# Altium schematic symbol library Inverting buck boost.SchLib: 104 symbols (part 2 of 9)
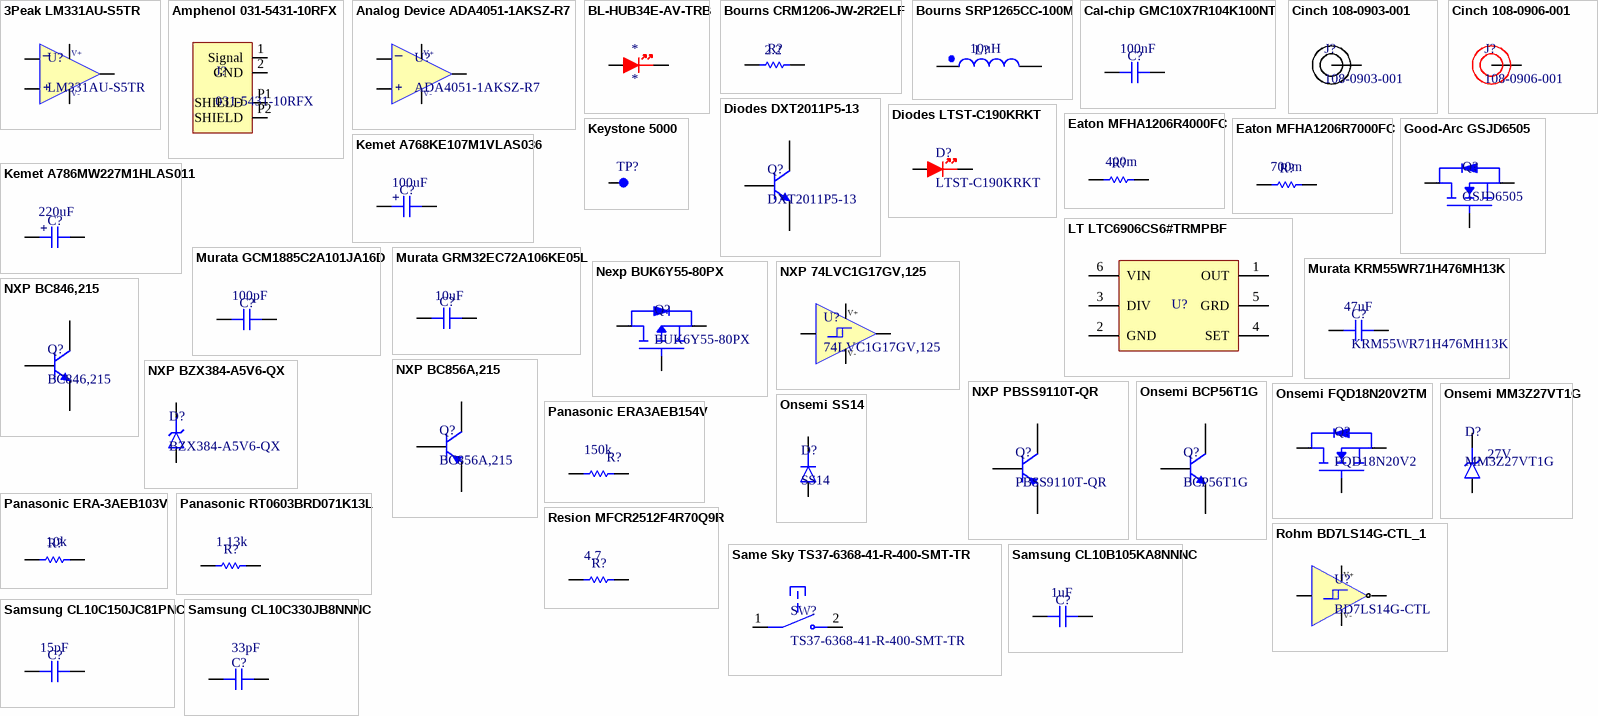
[diagram p3: symbols 3Peak LM331AU-S5TR to Samsung CL10C330JB8NNNC]

## Murata GCM1885C2A101JA16D
designator C?, comment Capacitance: 100pF  (hidden comment: GCM1885C2A101JA16D)
100V 100pF C0G ±5% 0603 Multilayer Ceramic Capacitors MLCC - SMD/SMT ROHS; Manufacturer: Murata; Manufacturer Lifecycle Status: IN PRODUCTION; Temperature Coefficient: 30ppm/°C; Supplier: RS; Supplier Part Number: 8151323P; Manufacturer Part Number: GCM1885C2A101JA16D; RoHS: Compliant; Category: Ceramic Capacitors; Stock: 11200; Pricing: 1000=0,018, 2000=0,017, 5000=0,016, 10000=0,014 (EUR); Case/Package: 0603; Case Code (Imperial): 0603; Case Code (Metric): 1608; Depth: 800µm; Dielectric: C0G; Dielectric Material: Ceramic; Height: 800µm; Lead Free: Lead Free; Length: 1.6mm; Lifecycle Status: Production; Material: Ceramic; Max Operating Temperature: 125°C; Min Operating Temperature: -55°C; Mounting Technology: Surface Mount; Number of Terminals: 2; Radiation Hardening: No; Ratings: AEC-Q200; REACH SVHC: Yes; Schedule B: 8532240020, 8532240020|8532240020, 8532240020|8532240020|8532240020, 8532240020|8532240020|8532240020|8532240020; Termination: SMD/SMT; Tolerance: 5%; Voltage: 100V; Voltage Rating: 100V; Voltage Rating (DC): 100V; Width: 800µm; ComponentLink1URL: https://datasheet.octopart.com:443/GCM1885C2A101JA16D-Murata-datasheet-149522598.pdf?src-supplier=Farnell; ComponentLink1Description: https://datasheet.octopart.com:443/GCM1885C2A101JA16D-Murata-datasheet-149522598.pdf?src-supplier=Farnell; ComponentLink2URL: https://datasheet.octopart.com:443/GCM1885C2A101JA16D-Murata-datasheet-104277829.pdf?src-supplier=Newark; ComponentLink2Description: https://datasheet.octopart.com:443/GCM1885C2A101JA16D-Murata-datasheet-104277829.pdf?src-supplier=Newark; ComponentLink3URL: https://datasheet.octopart.com:443/GCM1885C2A101JA16D-Murata-datasheet-141266551.pdf?src-supplier=Geoflip; ComponentLink3Description: https://datasheet.octopart.com:443/GCM1885C2A101JA16D-Murata-datasheet-141266551.pdf?src-supplier=Geoflip; ComponentLink4URL: https://datasheet.octopart.com:443/GCM1885C2A101JA16D-Murata-datasheet-14404397.pdf?src-supplier=Future+Electronics; ComponentLink4Description: https://datasheet.octopart.com:443/GCM1885C2A101JA16D-Murata-datasheet-14404397.pdf?src-supplier=Future+Electronics; ComponentLink5URL: https://datasheet.octopart.com:443/GCM1885C2A101JA16D-Murata-datasheet-12524712.pdf?src-supplier=Future+Electronics; ComponentLink5Description: https://datasheet.octopart.com:443/GCM1885C2A101JA16D-Murata-datasheet-12524712.pdf?src-supplier=Future+Electronics; ComponentLink6URL: https://datasheet.octopart.com:443/GCM1885C2A101JA16D-Murata-datasheet-44104441.pdf?src-supplier=Future+Electronics; ComponentLink6Description: https://datasheet.octopart.com:443/GCM1885C2A101JA16D-Murata-datasheet-44104441.pdf?src-supplier=Future+Electronics; ComponentLink7URL: https://datasheet.octopart.com:443/GCM1885C2A101JA16D-Murata-datasheet-140657395.pdf?src-supplier=Ciiva; ComponentLink7Description: https://datasheet.octopart.com:443/GCM1885C2A101JA16D-Murata-datasheet-140657395.pdf?src-supplier=Ciiva; ComponentLink8URL: https://datasheet.octopart.com:443/GCM1885C2A101JA16D-Murata-datasheet-138717052.pdf?src-supplier=Ciiva; ComponentLink8Description: https://datasheet.octopart.com:443/GCM1885C2A101JA16D-Murata-datasheet-138717052.pdf?src-supplier=Ciiva; ComponentLink9URL: https://datasheet.octopart.com:443/GCM1885C2A101JA16D-Murata-datasheet-141971842.pdf?src-supplier=Arrow.cn; ComponentLink9Description: https://datasheet.octopart.com:443/GCM1885C2A101JA16D-Murata-datasheet-141971842.pdf?src-supplier=Arrow.cn; ComponentLink10URL: https://datasheet.octopart.com:443/GCM1885C2A101JA16D-Murata-datasheet-12511495.pdf?src-supplier=TME; ComponentLink10Description: https://datasheet.octopart.com:443/GCM1885C2A101JA16D-Murata-datasheet-12511495.pdf?src-supplier=TME; ComponentLink11URL: http://sigma.octopart.com:80/reach_statement/Murata-company-16.pdf?src-supplier=Compliance+Statements; ComponentLink11Description: http://sigma.octopart.com:80/reach_statement/Murata-company-16.pdf?src-supplier=Compliance+Statements
footprint Cap_0603
pins: 1, 2

## Murata GRM32EC72A106KE05L
designator C?, comment Capacitance: 10uF  (hidden comment: GRM32EC72A106KE05L)
100V 10uF X7S ±10% 1210 Multilayer Ceramic Capacitors MLCC - SMD/SMT ROHS; Manufacturer: Murata; Manufacturer Lifecycle Status: IN PRODUCTION; Supplier: RS; Supplier Part Number: 2478166P; Manufacturer Part Number: GRM32EC72A106KE05L; RoHS: Compliant; Category: Ceramic Capacitors; Stock: 6445; Pricing: 25=1,014, 50=0,9, 500=0,79 (EUR); Case/Package: 1210; Dielectric: X7S; Dielectric Material: Ceramic; Height: 2.5mm; Length: 3.2mm; Lifecycle Status: Production; Material: Ceramic; Max Operating Temperature: 125°C; Min Operating Temperature: -55°C; Mounting Technology: Surface Mount; Number of Terminals: 2; REACH SVHC: Yes; Schedule B: 8532240020, 8532240020|8532240020|8532240020|8532240020|8532240020|8532240020|8532240020|8532240020|8532240020|8532240020|8532240020|8532240020|8532240020|8532240020|8532240020|8532240020|8532240020|8532240020|8532240020|8532240020|8532240020|8532240020|8532240020|85; Thickness: 2.5mm; Tolerance: 10%; Voltage Rating: 100V; Voltage Rating (DC): 100V; Width: 2.5mm; ComponentLink1URL: https://datasheet.octopart.com:443/GRM32EC72A106KE05L-Murata-datasheet-141281477.pdf?src-supplier=Geoflip; ComponentLink1Description: https://datasheet.octopart.com:443/GRM32EC72A106KE05L-Murata-datasheet-141281477.pdf?src-supplier=Geoflip; ComponentLink2URL: https://datasheet.octopart.com:443/GRM32EC72A106KE05L-Murata-datasheet-165579666.pdf?src-supplier=TME; ComponentLink2Description: https://datasheet.octopart.com:443/GRM32EC72A106KE05L-Murata-datasheet-165579666.pdf?src-supplier=TME; ComponentLink3URL: https://datasheet.octopart.com:443/GRM32EC72A106KE05L-Murata-datasheet-140709574.pdf?src-supplier=Ciiva; ComponentLink3Description: https://datasheet.octopart.com:443/GRM32EC72A106KE05L-Murata-datasheet-140709574.pdf?src-supplier=Ciiva; ComponentLink4URL: https://datasheet.octopart.com:443/GRM32EC72A106KE05L-Murata-datasheet-138746841.pdf?src-supplier=Ciiva; ComponentLink4Description: https://datasheet.octopart.com:443/GRM32EC72A106KE05L-Murata-datasheet-138746841.pdf?src-supplier=Ciiva; ComponentLink5URL: https://datasheet.octopart.com:443/GRM32EC72A106KE05L-Murata-datasheet-102370999.pdf?src-supplier=HQonline; ComponentLink5Description: https://datasheet.octopart.com:443/GRM32EC72A106KE05L-Murata-datasheet-102370999.pdf?src-supplier=HQonline; ComponentLink6URL: https://datasheet.octopart.com/GRM32EC72A106KE05L-Murata-datasheet-12515295.pdf; ComponentLink6Description: https://datasheet.octopart.com/GRM32EC72A106KE05L-Murata-datasheet-12515295.pdf; ComponentLink7URL: https://datasheet.octopart.com/GRM32EC72A106KE05L-Murata-datasheet-12510076.pdf; ComponentLink7Description: https://datasheet.octopart.com/GRM32EC72A106KE05L-Murata-datasheet-12510076.pdf; ComponentLink8URL: https://datasheet.octopart.com/GRM32EC72A106KE05L-Murata-datasheet-11978611.pdf; ComponentLink8Description: https://datasheet.octopart.com/GRM32EC72A106KE05L-Murata-datasheet-11978611.pdf; ComponentLink9URL: https://datasheet.octopart.com/GRM32EC72A106KE05L-Murata-datasheet-10025737.pdf; ComponentLink9Description: https://datasheet.octopart.com/GRM32EC72A106KE05L-Murata-datasheet-10025737.pdf; ComponentLink10URL: https://datasheet.octopart.com/GRM32EC72A106KE05L-Murata-datasheet-8819587.pdf; ComponentLink10Description: https://datasheet.octopart.com/GRM32EC72A106KE05L-Murata-datasheet-8819587.pdf; ComponentLink11URL: http://sigma.octopart.com:80/reach_statement/Murata-company-16.pdf?src-supplier=Compliance+Statements; ComponentLink11Description: http://sigma.octopart.com:80/reach_statement/Murata-company-16.pdf?src-supplier=Compliance+Statements
footprint cap_1210
pins: 1, 2

## Murata KRM55WR71H476MH13K
designator C?, comment KRM55WR71H476MH13K  Capacitance: 47uF
Multilayer Ceramic Capacitors MLCC - SMD/SMT 47uF 50VDC 20% X7R; Manufacturer: Murata; Voltage Rating: 50V; Supplier: DigiKey; Supplier Part Number: 490-KRM55WR71H476MH13KCT-ND; Manufacturer Part Number: KRM55WR71H476MH13K; RoHS: Compliant; Category: Ceramic Capacitors; Stock: 10136; Pricing: 1=4,98, 10=3,591, 50=3,0356, 100=2,8638 (USD); Case/Package: 2220; Dielectric: X7R; Dielectric Material: Ceramic; Height: 6.4mm; Length: 6.1mm; Lifecycle Status: Production; Material: Ceramic; Max Operating Temperature: 125°C; Min Operating Temperature: -55°C; Mounting Technology: Surface Mount; Number of Terminals: 2; REACH SVHC: Yes; Thickness: 6.4mm; Tolerance: 20%; Voltage Rating (DC): 50V; Width: 5.3mm; ComponentLink1URL: https://datasheet.octopart.com/KRM55WR71H476MH13K-Murata-datasheet-12515295.pdf; ComponentLink1Description: https://datasheet.octopart.com/KRM55WR71H476MH13K-Murata-datasheet-12515295.pdf; ComponentLink2URL: https://datasheet.octopart.com/KRM55WR71H476MH13K-Murata-datasheet-12510076.pdf; ComponentLink2Description: https://datasheet.octopart.com/KRM55WR71H476MH13K-Murata-datasheet-12510076.pdf; ComponentLink3URL: https://datasheet.octopart.com/KRM55WR71H476MH13K-Murata-datasheet-11978611.pdf; ComponentLink3Description: https://datasheet.octopart.com/KRM55WR71H476MH13K-Murata-datasheet-11978611.pdf; ComponentLink4URL: https://datasheet.octopart.com/KRM55WR71H476MH13K-Murata-datasheet-10025737.pdf; ComponentLink4Description: https://datasheet.octopart.com/KRM55WR71H476MH13K-Murata-datasheet-10025737.pdf; ComponentLink5URL: https://datasheet.octopart.com/KRM55WR71H476MH13K-Murata-datasheet-8819587.pdf; ComponentLink5Description: https://datasheet.octopart.com/KRM55WR71H476MH13K-Murata-datasheet-8819587.pdf; ComponentLink6URL: http://sigma.octopart.com:80/reach_statement/Murata-company-16.pdf?src-supplier=Compliance+Statements; ComponentLink6Description: http://sigma.octopart.com:80/reach_statement/Murata-company-16.pdf?src-supplier=Compliance+Statements
footprint cap_2220
pins: 1, 2

## Nexp BUK6Y55-80PX
designator Q?, comment BUK6Y55-80PX
80 V, P-channel Trench MOSFET; Manufacturer: Nexperia; Supplier: DigiKey; Supplier Part Number: 1727-BUK6Y55-80PXCT-ND; Manufacturer Part Number: BUK6Y55-80PX; RoHS: Compliant; Category: MOSFETs; Stock: 1568; Pricing: 1=1,14, 10=0,826, 25=0,7464, 100=0,6593, 250=0,61776, 500=0,59272 (USD); China RoHS: Non-Compliant; Export Control Classification Number (ECCN) Code: EAR99; Introduction Date: 2025-05-08; Lifecycle Status: Production; REACH SVHC: No
footprint LFPAK56
pins: 1 S, 4 G, MB D

## NXP 74LVC1G17GV,125
designator U?, comment 74LVC1G17GV,125
Schmitt Trigger Buffer, Single, 1 Input, 5 Pins, TSOP, 74LVC1G17; Manufacturer: Nexperia; Manufacturer Lifecycle Status: RELEASED FOR SUPPLY; High Level Output Current: -32mA; Load Capacitance: 50pF; Logic Function: Buffer, Schmitt Trigger; Low Level Output Current: 24mA; Max Supply Voltage: 5.5V; Min Supply Voltage: 1.65V; Number of Bits per Element: 1; Operating Supply Voltage: 1.8V; Polarity: Non-Inverting; Propagation Delay: 7ns; Quiescent Current: 200µA; Schmitt Trigger Input: Yes; Turn-On Delay Time: 14ns; Supplier: DigiKey; Supplier Part Number: 1727-6070-1-ND; Manufacturer Part Number: 74LVC1G17GV,125; RoHS: Compliant; Category: Logic Gates; Stock: 58843; Pricing: 1=0,1, 10=0,069, 25=0,0604, 100=0,0509, 250=0,04628, 500=0,04348, 1000=0,04119 (USD); Case/Package: TSOP; China RoHS: Compliant; Contact Plating: Tin; Height - Seated (Max): 1.1mm; Harmonized Tariff Schedule (HTS) Code: 8542.39.00.01; Introduction Date: 2004-12-01; Lead Free: Lead Free; Length: 2.9mm; Lifecycle Status: Production; Max Operating Temperature: 125°C; Max Supply Voltage (DC): 5.5V; Max Voltage Rating (DC): 5.5V; Min Operating Temperature: -40°C; Min Supply Voltage (DC): 1.65V; Mounting Technology: Surface Mount; Number of Channels: 1; Number of Circuits: 1; Number of Elements: 1; Number of Input Lines: 1; Number of Inputs: 1; Number of Output Lines: 1; Number of Outputs: 1; Pins: 5; Number of Terminals: 5; Packaging: Tape & Reel; Radiation Hardening: No; REACH SVHC: Yes; Schedule B: 8542390000, 8542390000|8542390000|8542390000|8542390000|8542390000; Temperature Grade: Automotive; Terminal Pitch: 950µm; Width: 1.5mm; ComponentLink1URL: https://datasheet.octopart.com:443/74LVC1G17GV%2C125-Nexperia-datasheet-87842575.pdf?src-supplier=IHS; ComponentLink1Description: https://datasheet.octopart.com:443/74LVC1G17GV%2C125-Nexperia-datasheet-87842575.pdf?src-supplier=IHS; ComponentLink2URL: https://datasheet.octopart.com:443/74LVC1G17GV%2C125-Nexperia-datasheet-11799833.pdf?src-supplier=IHS; ComponentLink2Description: https://datasheet.octopart.com:443/74LVC1G17GV%2C125-Nexperia-datasheet-11799833.pdf?src-supplier=IHS; ComponentLink3URL: https://datasheet.octopart.com:443/74LVC1G17GV%2C125-Nexperia-datasheet-73818103.pdf?src-supplier=Newark; ComponentLink3Description: https://datasheet.octopart.com:443/74LVC1G17GV%2C125-Nexperia-datasheet-73818103.pdf?src-supplier=Newark; ComponentLink4URL: https://datasheet.octopart.com:443/74LVC1G17GV%2C125-NXP-Semiconductors-datasheet-13026859.pdf?src-supplier=Newark; ComponentLink4Description: https://datasheet.octopart.com:443/74LVC1G17GV%2C125-NXP-Semiconductors-datasheet-13026859.pdf?src-supplier=Newark; ComponentLink5URL: https://datasheet.octopart.com:443/74LVC1G17GV%2C125-Nexperia-datasheet-116120530.pdf?src-supplier=Future+Electronics; ComponentLink5Description: https://datasheet.octopart.com:443/74LVC1G17GV%2C125-Nexperia-datasheet-116120530.pdf?src-supplier=Future+Electronics; ComponentLink6URL: http://sigma.octopart.com:80/reach_statement/NXP-Semiconductors-company-13.pdf?src-supplier=Compliance+Statements; ComponentLink6Description: http://sigma.octopart.com:80/reach_statement/NXP-Semiconductors-company-13.pdf?src-supplier=Compliance+Statements; ComponentLink7URL: http://sigma.octopart.com:80/rohs_statement/NXP-Semiconductors-company-12.pdf?src-supplier=Compliance+Statements; ComponentLink7Description: http://sigma.octopart.com:80/rohs_statement/NXP-Semiconductors-company-12.pdf?src-supplier=Compliance+Statements
footprint SOT353-1
pins: 2 A, 3 V-, 4 Y, 5 V+

## NXP BC846,215
designator Q?, comment BC846,215
BC846 Series 65 V 100 mA SMT NPN General Purpose Transistor - SOT-23; Manufacturer: Nexperia; Manufacturer Lifecycle Status: RELEASED FOR SUPPLY; Collector Base Voltage (VCBO): 80V; Collector Emitter Breakdown Voltage: 65V; Collector Emitter Saturation Voltage: 600mV; Element Configuration: Single; Emitter Base Voltage (VEBO): 6V; Frequency: 100MHz; hFE Min: 110; Max Collector Current: 100mA; Max Power Dissipation: 250mW; Number of Elements: 1; Supplier: RS; Supplier Part Number: 4842268P; Manufacturer Part Number: BC846,215; RoHS: Compliant; Category: BJTs; Stock: 24450; Pricing: 100=0,103, 250=0,091 (EUR); Case/Package: SOT-23; China RoHS: Compliant; Collector Emitter Voltage (VCEO): 65V; Contact Plating: Tin; Country of Origin: Mainland China; Export Control Classification Number (ECCN) Code: EAR99; Gain Bandwidth Product: 100MHz; Height: 1mm; Harmonized Tariff Schedule (HTS) Code: 8541.21.00.95; Introduction Date: 1997-09-01; Lead Free: Lead Free; Length: 3mm; Lifecycle Status: Production; Max Breakdown Voltage: 65V; Clock Frequency: 100MHz; Max Operating Temperature: 150°C; Min Operating Temperature: -65°C; Mounting Technology: Surface Mount; Pins: 3; Number of Terminals: 3; Packaging: Cut Tape; Polarity: NPN; Power Dissipation: 250mW; Radiation Hardening: No; REACH SVHC: Yes; Schedule B: 8541210080, 8541210080|8541210080|8541210080|8541210080|8541210080|8541210080|8541210080|8541210080|8541210080|8541210080|8541210080|8541210080|8541210080|8541210080|8541210080|8541210080|8541210080, 8541210080|8541210080|8541210080|8541210080|8541210080|8541210080|8541210080|8541210080|8541210080|8541210080|8541210080|8541210080|8541210080|8541210080|8541210080|8541210080|8541210080|8541210080, 8541210080|8541210080|8541210080|8541210080|8541210080|8541210080|8541210080|8541210080|8541210080|8541210080|8541210080|8541210080|8541210080|8541210080|8541210080|8541210080|8541210080|8541210080|8541210080; Transition Frequency: 100MHz; Weight: 4.535924g; Width: 1.4mm; ComponentLink1URL: https://datasheet.octopart.com:443/BC846%2C215-Nexperia-datasheet-158761168.pdf?src-supplier=Future+Electronics; ComponentLink1Description: https://datasheet.octopart.com:443/BC846%2C215-Nexperia-datasheet-158761168.pdf?src-supplier=Future+Electronics; ComponentLink2URL: https://datasheet.octopart.com:443/BC846%2C215-Nexperia-datasheet-12520503.pdf?src-supplier=IHS; ComponentLink2Description: https://datasheet.octopart.com:443/BC846%2C215-Nexperia-datasheet-12520503.pdf?src-supplier=IHS; ComponentLink3URL: https://datasheet.octopart.com:443/BC846%2C215-Nexperia-datasheet-116120539.pdf?src-supplier=IHS; ComponentLink3Description: https://datasheet.octopart.com:443/BC846%2C215-Nexperia-datasheet-116120539.pdf?src-supplier=IHS; ComponentLink4URL: https://datasheet.octopart.com:443/BC846%2C215-Nexperia-datasheet-87580894.pdf?src-supplier=Newark; ComponentLink4Description: https://datasheet.octopart.com:443/BC846%2C215-Nexperia-datasheet-87580894.pdf?src-supplier=Newark; ComponentLink5URL: https://datasheet.octopart.com:443/BC846%2C215-NXP-Semiconductors-datasheet-8530246.pdf?src-supplier=Arrow+Electronics; ComponentLink5Description: https://datasheet.octopart.com:443/BC846%2C215-NXP-Semiconductors-datasheet-8530246.pdf?src-supplier=Arrow+Electronics; ComponentLink6URL: https://datasheet.octopart.com:443/BC846%2C215-NXP-Semiconductors-datasheet-20734450.pdf?src-supplier=Farnell; ComponentLink6Description: https://datasheet.octopart.com:443/BC846%2C215-NXP-Semiconductors-datasheet-20734450.pdf?src-supplier=Farnell; ComponentLink7URL: http://sigma.octopart.com:80/reach_statement/NXP-Semiconductors-company-13.pdf?src-supplier=Compliance+Statements; ComponentLink7Description: http://sigma.octopart.com:80/reach_statement/NXP-Semiconductors-company-13.pdf?src-supplier=Compliance+Statements; ComponentLink8URL: http://sigma.octopart.com:80/rohs_statement/NXP-Semiconductors-company-12.pdf?src-supplier=Compliance+Statements; ComponentLink8Description: http://sigma.octopart.com:80/rohs_statement/NXP-Semiconductors-company-12.pdf?src-supplier=Compliance+Statements
footprint sot23
pins: 1 B, 2 E, 3 C

## NXP BC856A,215
designator Q?, comment BC856A,215
BC856 Series 65 V 100 mA SMT PNP General Purpose Transistor - SOT-23; Manufacturer: Nexperia; Manufacturer Lifecycle Status: RELEASED FOR SUPPLY; Collector Base Voltage (VCBO): -80V; Collector Emitter Breakdown Voltage: -65V; Collector Emitter Saturation Voltage: 650mV; Collector Emitter Voltage (VCEO): 65V; Element Configuration: Single; Emitter Base Voltage (VEBO): -5V; Frequency: 100MHz; hFE Min: 125; Max Collector Current: 100mA; Max Junction Temperature (Tj): 150°C; Max Power Dissipation: 300mW; Number of Elements: 1; Power Dissipation: 250mW; Supplier: Arrow Electronics; Supplier Part Number: BC856A,215; Manufacturer Part Number: BC856A,215; RoHS: Compliant; Category: BJTs; Stock: 1532; Pricing: 1=0,1021, 10=0,0654, 100=0,0398, 500=0,0286, 1000=0,025 (USD); Ambient Temperature Range High: 150°C; Case/Package: SOT-23; China RoHS: Compliant; Contact Plating: Tin; Country of Origin: Mainland China; Export Control Classification Number (ECCN) Code: EAR99; Gain Bandwidth Product: 100MHz; Height: 1.1mm; Harmonized Tariff Schedule (HTS) Code: 8541.21.00.95; Introduction Date: 1993-03-01; Lead Free: Lead Free; Length: 6.35mm; Lifecycle Status: Production; Max Breakdown Voltage: 65V; Max Operating Temperature: 150°C; Min Operating Temperature: -65°C; Mounting Technology: Surface Mount; Pins: 3; Number of Terminals: 3; Polarity: PNP; Radiation Hardening: No; REACH SVHC: Yes; Schedule B: 8541210080, 8541210080|8541210080, 8541210080|8541210080|8541210080, 8541210080|8541210080|8541210080|8541210080; Transition Frequency: 100MHz; Weight: 4.535924g; Width: 6.35mm; ComponentLink1URL: https://datasheet.octopart.com:443/BC856A%2C215-Nexperia-datasheet-180923436.pdf?src-supplier=IHS; ComponentLink1Description: https://datasheet.octopart.com:443/BC856A%2C215-Nexperia-datasheet-180923436.pdf?src-supplier=IHS; ComponentLink2URL: https://datasheet.octopart.com:443/BC856A%2C215-Nexperia-datasheet-8507722.pdf?src-supplier=Newark; ComponentLink2Description: https://datasheet.octopart.com:443/BC856A%2C215-Nexperia-datasheet-8507722.pdf?src-supplier=Newark; ComponentLink3URL: https://datasheet.octopart.com:443/BC856A%2C215-Nexperia-datasheet-87580908.pdf?src-supplier=Upverter; ComponentLink3Description: https://datasheet.octopart.com:443/BC856A%2C215-Nexperia-datasheet-87580908.pdf?src-supplier=Upverter; ComponentLink4URL: https://sigma.octopart.com:443/138797052/technical_drawing/Nexperia-BC856A%2C215.pdf?src-supplier=Upverter; ComponentLink4Description: https://sigma.octopart.com:443/138797052/technical_drawing/Nexperia-BC856A%2C215.pdf?src-supplier=Upverter; ComponentLink5URL: https://datasheet.octopart.com:443/BC856A%2C215-NXP-datasheet-56633.pdf?src-supplier=Future+Electronics; ComponentLink5Description: https://datasheet.octopart.com:443/BC856A%2C215-NXP-datasheet-56633.pdf?src-supplier=Future+Electronics; ComponentLink6URL: http://sigma.octopart.com:80/reach_statement/NXP-Semiconductors-company-13.pdf?src-supplier=Compliance+Statements; ComponentLink6Description: http://sigma.octopart.com:80/reach_statement/NXP-Semiconductors-company-13.pdf?src-supplier=Compliance+Statements; ComponentLink7URL: http://sigma.octopart.com:80/rohs_statement/NXP-Semiconductors-company-12.pdf?src-supplier=Compliance+Statements; ComponentLink7Description: http://sigma.octopart.com:80/rohs_statement/NXP-Semiconductors-company-12.pdf?src-supplier=Compliance+Statements
footprint sot23
pins: 1 B, 2 E, 3 C

## NXP BZX384-A5V6-QX
designator D?, comment BZX384-A5V6-QX
Diode Zener 5.6V 300MW SOD323; Manufacturer: Nexperia; Manufacturer Lifecycle Status: RELEASED FOR SUPPLY; Supplier: DigiKey; Supplier Part Number: 1727-BZX384-A5V6-QXCT-ND; Manufacturer Part Number: BZX384-A5V6-QX; Category: Zener Diodes; Stock: 3000; Pricing: 1=0,72, 10=0,443, 100=0,2841, 500=0,21542, 1000=0,19325 (USD); Lifecycle Status: Production; ComponentLink1URL: https://datasheet.octopart.com:443/BZX384-A5V6-QX-Nexperia-datasheet-155894856.pdf?src-supplier=Nexperia; ComponentLink1Description: https://datasheet.octopart.com:443/BZX384-A5V6-QX-Nexperia-datasheet-155894856.pdf?src-supplier=Nexperia
footprint SOD-323
pins: A, K

## NXP PBSS9110T-QR
designator Q?, comment PBSS9110T-QR
Bipolar Transistors - BJT 100 V, 1 A PNP low VCEsat transistor; Manufacturer: Nexperia; Manufacturer Lifecycle Status: RELEASED FOR SUPPLY; Supplier: DigiKey; Supplier Part Number: 1727-PBSS9110T-QRTR-ND; Manufacturer Part Number: PBSS9110T-QR; Category: Uncategorized; Stock: 6000; Pricing: 3000=0,08942, 6000=0,08095, 9000=0,07663, 15000=0,07178, 21000=0,07176 (USD); Lifecycle Status: Production; ComponentLink1URL: https://datasheet.octopart.com:443/PBSS9110T-QR-Nexperia-datasheet-163260084.pdf?src-supplier=Nexperia; ComponentLink1Description: https://datasheet.octopart.com:443/PBSS9110T-QR-Nexperia-datasheet-163260084.pdf?src-supplier=Nexperia
footprint SOT23
pins: 1 B, 2 E, 3 C

## Onsemi BCP56T1G
designator Q?, comment BCP56T1G
Bipolar (BJT) Single Transistor, General Purpose, NPN, 80 V, 1 A, 1.5 W, SOT-223, Surface Mount; Manufacturer: onsemi; Manufacturer Lifecycle Status: ACTIVE; Collector Base Voltage (VCBO): 100V; Collector Emitter Breakdown Voltage: 80V; Collector Emitter Saturation Voltage: 500mV; Current Rating: 1A; Emitter Base Voltage (VEBO): 5V; Frequency: 130MHz; hFE Min: 40; Max Junction Temperature (Tj): 150°C; Max Power Dissipation: 1.5W; Number of Elements: 1; Supplier: Future Electronics; Supplier Part Number: BCP56T1G; Manufacturer Part Number: BCP56T1G; RoHS: Compliant; Category: BJTs; Stock: 8000; Pricing: 1000=0,174, 2000=0,172, 3000=0,171, 5000=0,169, 10000=0,165 (USD); Case/Package: SOT-223-4; China RoHS: Compliant; Collector Emitter Voltage (VCEO): 80V; Contact Plating: Tin; Country of Origin: Malaysia; Export Control Classification Number (ECCN) Code: EAR99; Element Configuration: Single; Gain Bandwidth Product: 130MHz; Height: 1.75mm; Introduction Date: 1994-05-01; Lead Free: Lead Free; Length: 6.5mm; Lifecycle Status: Production; Max Breakdown Voltage: 80V; Max Collector Current: 1A; Clock Frequency: 130MHz; Max Operating Temperature: 150°C; Min Operating Temperature: -65°C; Pins: 4; Number of Terminals: 4; Packaging: Tape and Reel; Polarity: NPN; Power Dissipation: 1.5W; Radiation Hardening: No; REACH SVHC: Yes; Schedule B: 8541290080, 8541290080|8541290080, 8541290080|8541290080|8541290080, 8541290080|8541290080|8541290080|8541290080; Transition Frequency: 130MHz; Voltage Rating (DC): 80V; Width: 3.5mm; ComponentLink1URL: https://datasheet.octopart.com:443/BCP56T1G-ON-Semiconductor-datasheet-11773203.pdf?src-supplier=Master+Electronics; ComponentLink1Description: https://datasheet.octopart.com:443/BCP56T1G-ON-Semiconductor-datasheet-11773203.pdf?src-supplier=Master+Electronics; ComponentLink2URL: https://datasheet.octopart.com:443/BCP56T1G-ON-Semiconductor-datasheet-115914.pdf?src-supplier=Upverter; ComponentLink2Description: https://datasheet.octopart.com:443/BCP56T1G-ON-Semiconductor-datasheet-115914.pdf?src-supplier=Upverter; ComponentLink3URL: https://datasheet.octopart.com:443/BCP56T1G-ON-Semiconductor-datasheet-10037429.pdf?src-supplier=Upverter; ComponentLink3Description: https://datasheet.octopart.com:443/BCP56T1G-ON-Semiconductor-datasheet-10037429.pdf?src-supplier=Upverter; ComponentLink4URL: https://sigma.octopart.com:443/138897321/technical_drawing/ON-Semiconductor-BCP56T1G.pdf?src-supplier=Upverter; ComponentLink4Description: https://sigma.octopart.com:443/138897321/technical_drawing/ON-Semiconductor-BCP56T1G.pdf?src-supplier=Upverter; ComponentLink5URL: https://datasheet.octopart.com:443/BCP56T1G-onsemi-datasheet-180957997.pdf?src-supplier=IHS; ComponentLink5Description: https://datasheet.octopart.com:443/BCP56T1G-onsemi-datasheet-180957997.pdf?src-supplier=IHS; ComponentLink6URL: https://datasheet.octopart.com:443/BCP56T1G-ON-Semiconductor-datasheet-127822402.pdf?src-supplier=onsemi; ComponentLink6Description: https://datasheet.octopart.com:443/BCP56T1G-ON-Semiconductor-datasheet-127822402.pdf?src-supplier=onsemi; ComponentLink7URL: https://datasheet.octopart.com:443/BCP56T1G-ON-Semiconductor-datasheet-67365902.pdf?src-supplier=Newark; ComponentLink7Description: https://datasheet.octopart.com:443/BCP56T1G-ON-Semiconductor-datasheet-67365902.pdf?src-supplier=Newark; ComponentLink8URL: https://datasheet.octopart.com:443/BCP56T1G-onsemi-datasheet-155106006.pdf?src-supplier=Farnell; ComponentLink8Description: https://datasheet.octopart.com:443/BCP56T1G-onsemi-datasheet-155106006.pdf?src-supplier=Farnell; ComponentLink9URL: https://datasheet.octopart.com:443/BCP56T1G-ON-Semiconductor-datasheet-7627526.pdf?src-supplier=Farnell; ComponentLink9Description: https://datasheet.octopart.com:443/BCP56T1G-ON-Semiconductor-datasheet-7627526.pdf?src-supplier=Farnell; ComponentLink10URL: https://datasheet.octopart.com:443/BCP56T1G-ON-Semiconductor-datasheet-34219089.pdf?src-supplier=LCSC; ComponentLink10Description: https://datasheet.octopart.com:443/BCP56T1G-ON-Semiconductor-datasheet-34219089.pdf?src-supplier=LCSC; ComponentLink11URL: https://datasheet.octopart.com:443/BCP56T1G-ON-Semiconductor-datasheet-151956263.pdf?src-supplier=SOS+electronic; ComponentLink11Description: https://datasheet.octopart.com:443/BCP56T1G-ON-Semiconductor-datasheet-151956263.pdf?src-supplier=SOS+electronic; ComponentLink12URL: https://datasheet.octopart.com:443/BCP56T1G-ON-Semiconductor-datasheet-133521196.pdf?src-supplier=TME; ComponentLink12Description: https://datasheet.octopart.com:443/BCP56T1G-ON-Semiconductor-datasheet-133521196.pdf?src-supplier=TME; ComponentLink13URL: https://datasheet.octopart.com:443/BCP56T1G-ON-Semiconductor-datasheet-11524017.pdf?src-supplier=TME; ComponentLink13Description: https://datasheet.octopart.com:443/BCP56T1G-ON-Semiconductor-datasheet-11524017.pdf?src-supplier=TME; ComponentLink14URL: https://datasheet.octopart.com:443/BCP56T1G-ON-Semiconductor-datasheet-14064284.pdf?src-supplier=iiiC; ComponentLink14Description: https://datasheet.octopart.com:443/BCP56T1G-ON-Semiconductor-datasheet-14064284.pdf?src-supplier=iiiC; ComponentLink15URL: https://datasheet.octopart.com:443/BCP56T1G-ON-Semiconductor-datasheet-9636216.pdf?src-supplier=RS+(Formerly+Allied+Electronics); ComponentLink15Description: https://datasheet.octopart.com:443/BCP56T1G-ON-Semiconductor-datasheet-9636216.pdf?src-supplier=RS+(Formerly+Allied+Electronics); ComponentLink16URL: http://sigma.octopart.com:80/150605607/rohs_statement/ON-Semiconductor-BCP56T1G.pdf?src-supplier=Compliance+Statements; ComponentLink16Description: http://sigma.octopart.com:80/150605607/rohs_statement/ON-Semiconductor-BCP56T1G.pdf?src-supplier=Compliance+Statements; ComponentLink17URL: http://sigma.octopart.com:80/reach_statement/ON-Semiconductor-company-79.pdf?src-supplier=Compliance+Statements; ComponentLink17Description: http://sigma.octopart.com:80/reach_statement/ON-Semiconductor-company-79.pdf?src-supplier=Compliance+Statements; ComponentLink18URL: https://octopart.com:443/opatz8j6/c1?t=wATdCM_I8JXIfSO0d0eDApFaQPkKEBXAggf1BvkQArt-71HMy-cOp-Hg2nUJxeY9nwJu68WEzwQwZs0zNzj053L-m2xo4zjaH1EckqCREETc8g2lkrARN8FCmW0i2qxhjd3JepoAg30e9bue9j1TZwcAecE6TOZPOSdaYVeqVLfToeDecKN0dRDGfsS64ao3WV_YcR9K_MgKQhBvfxhS2AHyVzVFwsPCdnCH52RWX2E8T8sud2wP7McDO4YK_3FFJwswkD7gGSmSBOb6YHPu-02AM_-b64wer4WsfVco0KoPwgu8x0xrrmPeyBENKdM2826qI5ypA3q1RerUd13_EyX-zroXuCDr&src-supplier=Compliance+Statements; ComponentLink18Description: https://octopart.com:443/opatz8j6/c1?t=wATdCM_I8JXIfSO0d0eDApFaQPkKEBXAggf1BvkQArt-71HMy-cOp-Hg2nUJxeY9nwJu68WEzwQwZs0zNzj053L-m2xo4zjaH1EckqCREETc8g2lkrARN8FCmW0i2qxhjd3JepoAg30e9bue9j1TZwcAecE6TOZPOSdaYVeqVLfToeDecKN0dRDGfsS64ao3WV_YcR9K_MgKQhBvfxhS2AHyVzVFwsPCdnCH52RWX2E8T8sud2wP7McDO4YK_3FFJwswkD7gGSmSBOb6YHPu-02AM_-b64wer4WsfVco0KoPwgu8x0xrrmPeyBENKdM2826qI5ypA3q1RerUd13_EyX-zroXuCDr&src-supplier=Compliance+Statements; ComponentLink19URL: https://octopart.com:443/opatz8j6/c1?t=Yl8fq8bY5KrpOd-TaGLYPcgeY4L6OFaW0R1p-GsoZmfk7Ts0XXdGego74HPiX6bIlLhpJfgCpEgtULWjV9agckCabw3MyVLevc8HC8flpPzDlPOdbTrRl_pVwxoNz4KOzOdbo2C2Y5GCzNKBMGh49Ltj3BcRcKfBiZq3YUd-5BvaN5SV84G2ZsJbV0_yFWNimDdiZn3c2e97eJD1dtnAxS5LIr-dmq9ETk8Xz8d1gllh6ABt_4ERuLzrAi6_iRizEJasDAVkIyCugpUU5Jo_enQw2FN9oHobSQUQp4TWqDKBb6td6F0eupe-ZiwuH3O7Af65Lj0vO-J49yjaZCptR_035Ez-d8SsWA&src-supplier=Compliance+Statements; ComponentLink19Description: https://octopart.com:443/opatz8j6/c1?t=Yl8fq8bY5KrpOd-TaGLYPcgeY4L6OFaW0R1p-GsoZmfk7Ts0XXdGego74HPiX6bIlLhpJfgCpEgtULWjV9agckCabw3MyVLevc8HC8flpPzDlPOdbTrRl_pVwxoNz4KOzOdbo2C2Y5GCzNKBMGh49Ltj3BcRcKfBiZq3YUd-5BvaN5SV84G2ZsJbV0_yFWNimDdiZn3c2e97eJD1dtnAxS5LIr-dmq9ETk8Xz8d1gllh6ABt_4ERuLzrAi6_iRizEJasDAVkIyCugpUU5Jo_enQw2FN9oHobSQUQp4TWqDKBb6td6F0eupe-ZiwuH3O7Af65Lj0vO-J49yjaZCptR_035Ez-d8SsWA&src-supplier=Compliance+Statements
footprint SOT223
pins: 1 B, 2 C, 3 E, 4 C

## Onsemi FQD18N20V2TM
designator Q?, comment FQD18N20V2
N-Channel Power MOSFET, QFET®, 200 V, 15 A, 140 mΩ, DPAK; Manufacturer: onsemi; Manufacturer Part Number: FQD18N20V2TM; Manufacturer Lifecycle Status: ACTIVE; Continuous Drain Current (ID): 15A; Drain to Source Breakdown Voltage: 200V; Drain to Source Resistance: 140mΩ; Element Configuration: Single; Fall Time: 62ns; Gate to Source Voltage (Vgs): 30V; Input Capacitance: 1.08nF; Max Junction Temperature (Tj): 150°C; Max Power Dissipation: 83W; Nominal Vgs: 5V; Number of Channels: 1; Power Dissipation: 2.5W; RDSon: 140m; Rise Time: 133ns; Turn-Off Delay Time: 38ns; Turn-On Delay Time: 16ns; Supplier: RS; Supplier Part Number: 1867921; RoHS: Compliant; Category: MOSFETs; Stock: 1170; Pricing: 10=1,189, 100=0,892, 250=0,881, 500=0,758, 1000=0,618 (EUR); Case/Package: DPAK; China RoHS: Non-Compliant; Contact Plating: Tin; Country of Origin: Mainland China; Current Rating: 15A; Drain to Source Voltage (Vdss): 200V; Export Control Classification Number (ECCN) Code: EAR99; Height: 2.517mm; Harmonized Tariff Schedule (HTS) Code: 8541.29.00.95; Introduction Date: 2002-07-31; Lead Free: Lead Free; Length: 6.6mm; Lifecycle Status: Production; Max Operating Temperature: 150°C; Min Breakdown Voltage: 200V; Min Operating Temperature: -55°C; Mounting Technology: Surface Mount; Number of Elements: 1; Pins: 3; Number of Terminals: 2; Radiation Hardening: No; Rds On Max: 140mΩ; REACH SVHC: No; Schedule B: 8541290080, 8541290080|8541290080|8541290080|8541290080|8541290080; Voltage Rating (DC): 200V; Weight: 260.37mg; ComponentLink1URL: https://sigma.octopart.com:443/138897554/technical_drawing/ON-Semiconductor-FQD18N20V2TM.pdf?src-supplier=Upverter; ComponentLink1Description: https://sigma.octopart.com:443/138897554/technical_drawing/ON-Semiconductor-FQD18N20V2TM.pdf?src-supplier=Upverter; ComponentLink2URL: https://datasheet.octopart.com:443/FQD18N20V2TM-ON-Semiconductor-datasheet-86696078.pdf?src-supplier=Master+Electronics; ComponentLink2Description: https://datasheet.octopart.com:443/FQD18N20V2TM-ON-Semiconductor-datasheet-86696078.pdf?src-supplier=Master+Electronics; ComponentLink3URL: https://datasheet.octopart.com:443/FQD18N20V2TM-ON-Semiconductor-datasheet-137405633.pdf?src-supplier=IHS; ComponentLink3Description: https://datasheet.octopart.com:443/FQD18N20V2TM-ON-Semiconductor-datasheet-137405633.pdf?src-supplier=IHS; ComponentLink4URL: https://datasheet.octopart.com:443/FQD18N20V2TM-Fairchild-Semiconductor-datasheet-182293766.pdf?src-supplier=IHS; ComponentLink4Description: https://datasheet.octopart.com:443/FQD18N20V2TM-Fairchild-Semiconductor-datasheet-182293766.pdf?src-supplier=IHS; ComponentLink5URL: https://datasheet.octopart.com:443/FQD18N20V2TM-ON-Semiconductor-datasheet-85529587.pdf?src-supplier=onsemi; ComponentLink5Description: https://datasheet.octopart.com:443/FQD18N20V2TM-ON-Semiconductor-datasheet-85529587.pdf?src-supplier=onsemi; ComponentLink6URL: https://datasheet.octopart.com:443/FQD18N20V2TM-ON-Semiconductor-datasheet-22973400.pdf?src-supplier=Fairchild+Semiconductor; ComponentLink6Description: https://datasheet.octopart.com:443/FQD18N20V2TM-ON-Semiconductor-datasheet-22973400.pdf?src-supplier=Fairchild+Semiconductor; ComponentLink7URL: https://datasheet.octopart.com:443/FQD18N20V2TM-Fairchild-datasheet-5437142.pdf?src-supplier=Fairchild+Semiconductor; ComponentLink7Description: https://datasheet.octopart.com:443/FQD18N20V2TM-Fairchild-datasheet-5437142.pdf?src-supplier=Fairchild+Semiconductor; ComponentLink8URL: https://sigma.octopart.com:443/33068866/technical_drawing/Fairchild-Semiconductor-FQD18N20V2TM.pdf?src-supplier=Fairchild+Semiconductor; ComponentLink8Description: https://sigma.octopart.com:443/33068866/technical_drawing/Fairchild-Semiconductor-FQD18N20V2TM.pdf?src-supplier=Fairchild+Semiconductor; ComponentLink9URL: https://sigma.octopart.com:443/17346108/technical_drawing/Fairchild-Semiconductor-FQD18N20V2TM.pdf?src-supplier=Fairchild+Semiconductor; ComponentLink9Description: https://sigma.octopart.com:443/17346108/technical_drawing/Fairchild-Semiconductor-FQD18N20V2TM.pdf?src-supplier=Fairchild+Semiconductor; ComponentLink10URL: https://datasheet.octopart.com:443/FQD18N20V2TM-Fairchild-Semiconductor-datasheet-21379560.pdf?src-supplier=Farnell; ComponentLink10Description: https://datasheet.octopart.com:443/FQD18N20V2TM-Fairchild-Semiconductor-datasheet-21379560.pdf?src-supplier=Farnell; ComponentLink11URL: https://datasheet.octopart.com:443/FQD18N20V2TM-ON-Semiconductor-datasheet-86690119.pdf?src-supplier=Farnell; ComponentLink11Description: https://datasheet.octopart.com:443/FQD18N20V2TM-ON-Semiconductor-datasheet-86690119.pdf?src-supplier=Farnell; ComponentLink12URL: https://datasheet.octopart.com:443/FQD18N20V2TM-Fairchild-Semiconductor-datasheet-21199379.pdf?src-supplier=Newark; ComponentLink12Description: https://datasheet.octopart.com:443/FQD18N20V2TM-Fairchild-Semiconductor-datasheet-21199379.pdf?src-supplier=Newark; ComponentLink13URL: https://datasheet.octopart.com:443/FQD18N20V2TM-Fairchild-datasheet-119005.pdf?src-supplier=DigiKey; ComponentLink13Description: https://datasheet.octopart.com:443/FQD18N20V2TM-Fairchild-datasheet-119005.pdf?src-supplier=DigiKey; ComponentLink14URL: https://datasheet.octopart.com:443/FQD18N20V2TM-Fairchild-datasheet-164522.pdf?src-supplier=Mouser; ComponentLink14Description: https://datasheet.octopart.com:443/FQD18N20V2TM-Fairchild-datasheet-164522.pdf?src-supplier=Mouser; ComponentLink15URL: https://datasheet.octopart.com:443/FQD18N20V2TM-ON-Semiconductor-datasheet-81454925.pdf?src-supplier=TME; ComponentLink15Description: https://datasheet.octopart.com:443/FQD18N20V2TM-ON-Semiconductor-datasheet-81454925.pdf?src-supplier=TME; ComponentLink16URL: http://sigma.octopart.com:80/150610893/rohs_statement/ON-Semiconductor-FQD18N20V2TM.pdf?src-supplier=Compliance+Statements; ComponentLink16Description: http://sigma.octopart.com:80/150610893/rohs_statement/ON-Semiconductor-FQD18N20V2TM.pdf?src-supplier=Compliance+Statements; ComponentLink17URL: http://sigma.octopart.com:80/17350712/reach_statement/Fairchild-Semiconductor-FQD18N20V2TM.pdf?src-supplier=Compliance+Statements; ComponentLink17Description: http://sigma.octopart.com:80/17350712/reach_statement/Fairchild-Semiconductor-FQD18N20V2TM.pdf?src-supplier=Compliance+Statements; ComponentLink18URL: http://sigma.octopart.com:80/17350713/materials_sheet/Fairchild-Semiconductor-FQD18N20V2TM.pdf?src-supplier=Compliance+Statements; ComponentLink18Description: http://sigma.octopart.com:80/17350713/materials_sheet/Fairchild-Semiconductor-FQD18N20V2TM.pdf?src-supplier=Compliance+Statements; ComponentLink19URL: http://sigma.octopart.com:80/33170041/reach_statement/Fairchild-Semiconductor-FQD18N20V2TM.pdf?src-supplier=Compliance+Statements; ComponentLink19Description: http://sigma.octopart.com:80/33170041/reach_statement/Fairchild-Semiconductor-FQD18N20V2TM.pdf?src-supplier=Compliance+Statements; ComponentLink20URL: http://sigma.octopart.com:80/33170043/materials_sheet/Fairchild-Semiconductor-FQD18N20V2TM.pdf?src-supplier=Compliance+Statements; ComponentLink20Description: http://sigma.octopart.com:80/33170043/materials_sheet/Fairchild-Semiconductor-FQD18N20V2TM.pdf?src-supplier=Compliance+Statements; ComponentLink21URL: http://sigma.octopart.com:80/reach_statement/ON-Semiconductor-company-79.pdf?src-supplier=Compliance+Statements; ComponentLink21Description: http://sigma.octopart.com:80/reach_statement/ON-Semiconductor-company-79.pdf?src-supplier=Compliance+Statements; ComponentLink22URL: http://sigma.octopart.com:80/rohs_statement/Fairchild-Semiconductor-company-11.pdf?src-supplier=Compliance+Statements; ComponentLink22Description: http://sigma.octopart.com:80/rohs_statement/Fairchild-Semiconductor-company-11.pdf?src-supplier=Compliance+Statements; ComponentLink23URL: http://sigma.octopart.com:80/rohs_statement/Fairchild-Semiconductor-company-10.pdf?src-supplier=Compliance+Statements; ComponentLink23Description: http://sigma.octopart.com:80/rohs_statement/Fairchild-Semiconductor-company-10.pdf?src-supplier=Compliance+Statements; ComponentLink24URL: http://sigma.octopart.com:80/reach_statement/Fairchild-Semiconductor-company-9.pdf?src-supplier=Compliance+Statements; ComponentLink24Description: http://sigma.octopart.com:80/reach_statement/Fairchild-Semiconductor-company-9.pdf?src-supplier=Compliance+Statements; ComponentLink25URL: https://octopart.com:443/opatz8j6/c1?t=tss-XeP9tjDBY0S5GIM6_ULKEAYnQ3OmKS0bak7yZA8PK3ZgT-NOJgWRtgiQsWLCGa3IIm3D0Qc2j46udU123FQaI02lpNcV9fpPWsV0v4VKQGAtggwtfSSwk3oZdQir_OT0Gj_zFjiit2YLxdvIou5f9I-M_oCTybRLzqBaJb6Do9SdTFoUKQYwq4osiJlIYL5LgwJJTZ1UaIBxQipEy-vOBFCO_-JzP3zLx3410mxJg-5ytRAIdvwv3VVZliv5IjKLS7zbeYKGz95qWzIFTSzU3Xco3PBK5nsud0XbSvcV41SJUKJyDIkzorUNquc7-T7jTI8qeXLD3gP6WeV27mEPR1TyYlg-pHMl0_THKB8&src-supplier=Compliance+Statements; ComponentLink25Description: https://octopart.com:443/opatz8j6/c1?t=tss-XeP9tjDBY0S5GIM6_ULKEAYnQ3OmKS0bak7yZA8PK3ZgT-NOJgWRtgiQsWLCGa3IIm3D0Qc2j46udU123FQaI02lpNcV9fpPWsV0v4VKQGAtggwtfSSwk3oZdQir_OT0Gj_zFjiit2YLxdvIou5f9I-M_oCTybRLzqBaJb6Do9SdTFoUKQYwq4osiJlIYL5LgwJJTZ1UaIBxQipEy-vOBFCO_-JzP3zLx3410mxJg-5ytRAIdvwv3VVZliv5IjKLS7zbeYKGz95qWzIFTSzU3Xco3PBK5nsud0XbSvcV41SJUKJyDIkzorUNquc7-T7jTI8qeXLD3gP6WeV27mEPR1TyYlg-pHMl0_THKB8&src-supplier=Compliance+Statements; ComponentLink26URL: https://octopart.com:443/opatz8j6/c1?t=DpaQ-zW78t5OzW7J6WwPSdjvKUm_l3gMXCNgqQLiCO716UNLj9V6qpZTwKdfeZUwbM88J6NQwDH2acK-stHF5Z4ruH174_o9UHhCwyQdtGjwmNB0KtG1bm5s6VcLEoGQiEwZwpD5iE2EzMyX2QyfGbyRVQYRjqTqLckh1hz8aajdFY9iItU0-iIatPgFe19cr7MVSridAjgqTbaKkxOe9MmEmD27uoYzO9mEeH__5aG7SmFinNIqzol1lO__se7wI5SEqAMcK9c801dgsUYSbDLpYsB9L_0T7nbxsaAWxABB4RSTl7T0H2ZOMdpMiL9oj7EVur-7N9vx6mtGUaRnhhcL3inIqsaVlj0SfGzdaA&src-supplier=Compliance+Statements; ComponentLink26Description: https://octopart.com:443/opatz8j6/c1?t=DpaQ-zW78t5OzW7J6WwPSdjvKUm_l3gMXCNgqQLiCO716UNLj9V6qpZTwKdfeZUwbM88J6NQwDH2acK-stHF5Z4ruH174_o9UHhCwyQdtGjwmNB0KtG1bm5s6VcLEoGQiEwZwpD5iE2EzMyX2QyfGbyRVQYRjqTqLckh1hz8aajdFY9iItU0-iIatPgFe19cr7MVSridAjgqTbaKkxOe9MmEmD27uoYzO9mEeH__5aG7SmFinNIqzol1lO__se7wI5SEqAMcK9c801dgsUYSbDLpYsB9L_0T7nbxsaAWxABB4RSTl7T0H2ZOMdpMiL9oj7EVur-7N9vx6mtGUaRnhhcL3inIqsaVlj0SfGzdaA&src-supplier=Compliance+Statements
footprint TO-252  (DPAK) (1N65M5 STM)
pins: 1 G, 2 D, 3 S

## Onsemi MM3Z27VT1G
designator D?, comment MM3Z27VT1G  Reference Voltage: 27V
Diode, Zener, Vr 27V, If 10MA, Pkg SOD-323, Vf 0.9V, Cj 70PF, Tj +150C, Pd 200MW, Ir 2MA; Manufacturer: onsemi; Manufacturer Lifecycle Status: ACTIVE; Element Configuration: Single; ESD Protection: Yes; Forward Voltage: 900mV; Impedance: 80Ω; Material: Plastic; Max Power Dissipation: 300mW; Max Reverse Leakage Current: 50nA; Number of Elements: 1; Polarity: Unidirectional; Reverse Standoff Voltage: 18.9V; Tolerance: 7%; Voltage Tolerance: 7.04%; Supplier: Future Electronics; Supplier Part Number: MM3Z27VT1G; Manufacturer Part Number: MM3Z27VT1G; RoHS: Compliant; Category: Zener Diodes; Stock: 492000; Pricing: 3000=0,0226, 9000=0,0221, 15000=0,0218, 45000=0,0213, 75000=0,0208 (USD); Case/Package: SOD-323-2; China RoHS: Compliant; Composition: Zener; Contact Plating: Tin; Country of Origin: Mainland China; Export Control Classification Number (ECCN) Code: EAR99; Height: 990.6µm; Harmonized Tariff Schedule (HTS) Code: 8541.10.00.50; Introduction Date: 2001-05-19; Lead Free: Lead Free; Length: 1.778mm; Lifecycle Status: Production; Max Operating Temperature: 150°C; Min Operating Temperature: -65°C; Pins: 2; Number of Terminals: 2; Packaging: Tape and Reel; Peak Reverse Current: 50nA; Power Dissipation: 200mW; Power Rating: 200mW; Radiation Hardening: No; REACH SVHC: Yes; Schedule B: 8541100050, 8541100050|8541100050, 8541100050|8541100050|8541100050, 8541100050|8541100050|8541100050|8541100050; Test Current: 2mA; Voltage Rating (DC): 27V; Width: 1.3462mm; Working Voltage: 27V; Zener Current: 2mA; Zener Voltage: 27V; ComponentLink1URL: https://datasheet.octopart.com:443/MM3Z27VT1G-onsemi-datasheet-180963385.pdf?src-supplier=IHS; ComponentLink1Description: https://datasheet.octopart.com:443/MM3Z27VT1G-onsemi-datasheet-180963385.pdf?src-supplier=IHS; ComponentLink2URL: https://datasheet.octopart.com:443/MM3Z27VT1G-ON-Semiconductor-datasheet-10854552.pdf?src-supplier=Farnell; ComponentLink2Description: https://datasheet.octopart.com:443/MM3Z27VT1G-ON-Semiconductor-datasheet-10854552.pdf?src-supplier=Farnell; ComponentLink3URL: https://datasheet.octopart.com:443/MM3Z27VT1G-ON-Semiconductor-datasheet-153454.pdf?src-supplier=Farnell; ComponentLink3Description: https://datasheet.octopart.com:443/MM3Z27VT1G-ON-Semiconductor-datasheet-153454.pdf?src-supplier=Farnell; ComponentLink4URL: https://datasheet.octopart.com:443/MM3Z27VT1G-ON-Semiconductor-datasheet-34436552.pdf?src-supplier=Farnell; ComponentLink4Description: https://datasheet.octopart.com:443/MM3Z27VT1G-ON-Semiconductor-datasheet-34436552.pdf?src-supplier=Farnell; ComponentLink5URL: https://datasheet.octopart.com:443/MM3Z27VT1G-ON-Semiconductor-datasheet-34219234.pdf?src-supplier=Farnell; ComponentLink5Description: https://datasheet.octopart.com:443/MM3Z27VT1G-ON-Semiconductor-datasheet-34219234.pdf?src-supplier=Farnell; ComponentLink6URL: https://datasheet.octopart.com:443/MM3Z27VT1G-ON-Semiconductor-datasheet-141916669.pdf?src-supplier=Upverter; ComponentLink6Description: https://datasheet.octopart.com:443/MM3Z27VT1G-ON-Semiconductor-datasheet-141916669.pdf?src-supplier=Upverter; ComponentLink7URL: https://datasheet.octopart.com:443/MM3Z27VT1G-onsemi-datasheet-166322658.pdf?src-supplier=Newark; ComponentLink7Description: https://datasheet.octopart.com:443/MM3Z27VT1G-onsemi-datasheet-166322658.pdf?src-supplier=Newark; ComponentLink8URL: https://datasheet.octopart.com:443/MM3Z27VT1G-ON-Semiconductor-datasheet-10405520.pdf?src-supplier=HQonline; ComponentLink8Description: https://datasheet.octopart.com:443/MM3Z27VT1G-ON-Semiconductor-datasheet-10405520.pdf?src-supplier=HQonline; ComponentLink9URL: https://datasheet.octopart.com:443/MM3Z27VT1G-onsemi-datasheet-188912692.pdf?src-supplier=TME; ComponentLink9Description: https://datasheet.octopart.com:443/MM3Z27VT1G-onsemi-datasheet-188912692.pdf?src-supplier=TME; ComponentLink10URL: https://datasheet.octopart.com:443/MM3Z27VT1G-onsemi-datasheet-166742605.pdf?src-supplier=TME; ComponentLink10Description: https://datasheet.octopart.com:443/MM3Z27VT1G-onsemi-datasheet-166742605.pdf?src-supplier=TME; ComponentLink11URL: https://datasheet.octopart.com:443/MM3Z27VT1G-ON-Semiconductor-datasheet-9566415.pdf?src-supplier=RS+(Formerly+Allied+Electronics); ComponentLink11Description: https://datasheet.octopart.com:443/MM3Z27VT1G-ON-Semiconductor-datasheet-9566415.pdf?src-supplier=RS+(Formerly+Allied+Electronics); ComponentLink12URL: http://sigma.octopart.com:80/150617830/rohs_statement/ON-Semiconductor-MM3Z27VT1G.pdf?src-supplier=Compliance+Statements; ComponentLink12Description: http://sigma.octopart.com:80/150617830/rohs_statement/ON-Semiconductor-MM3Z27VT1G.pdf?src-supplier=Compliance+Statements; ComponentLink13URL: http://sigma.octopart.com:80/reach_statement/ON-Semiconductor-company-79.pdf?src-supplier=Compliance+Statements; ComponentLink13Description: http://sigma.octopart.com:80/reach_statement/ON-Semiconductor-company-79.pdf?src-supplier=Compliance+Statements; ComponentLink14URL: https://octopart.com:443/opatz8j6/c1?t=X0TbtuEJkvB0hDdM0us222cWL80QeJYg8O_QdScqauBBUDCFxua7_rdkly_dNg_Yh86icTcmpvu74iIbrg-GkgRFkwtfWIcRcGlGxH4kG8XR6bHyjE6Pa_9ps11wSUEXHSDaWdDJ36DGMb0TToR-_hsWlBgUxmxxclRgS-BEqH7Q-gMLVs_yUWYRoPU2-B18qsbbTt8iVL-41g_E9jpcb0isizsrhkArARiB4VzwcNxWE92V8JR_4IM5ydACa2NGKUzR7Oa7JwTTXg9ESsLKX83t7v0P9KDrUEt9voTKRu3hVDY7DTyvhFYldiNFYrTnHy7-rLKsYI8CxCrRiZ0APmc7kbeCUiWBQZkFJw&src-supplier=Compliance+Statements; ComponentLink14Description: https://octopart.com:443/opatz8j6/c1?t=X0TbtuEJkvB0hDdM0us222cWL80QeJYg8O_QdScqauBBUDCFxua7_rdkly_dNg_Yh86icTcmpvu74iIbrg-GkgRFkwtfWIcRcGlGxH4kG8XR6bHyjE6Pa_9ps11wSUEXHSDaWdDJ36DGMb0TToR-_hsWlBgUxmxxclRgS-BEqH7Q-gMLVs_yUWYRoPU2-B18qsbbTt8iVL-41g_E9jpcb0isizsrhkArARiB4VzwcNxWE92V8JR_4IM5ydACa2NGKUzR7Oa7JwTTXg9ESsLKX83t7v0P9KDrUEt9voTKRu3hVDY7DTyvhFYldiNFYrTnHy7-rLKsYI8CxCrRiZ0APmc7kbeCUiWBQZkFJw&src-supplier=Compliance+Statements; ComponentLink15URL: https://octopart.com:443/opatz8j6/c1?t=_jnRK6WbDFLFWShGurbqc0M3zwWF74ykEZWfYiM0TpOiGHey8KAgwrBX0Ee2IvVR1FTVCtzG-it88Mx-c64x4FVqtlPCU1l6a3uCUSwp5USUAaZcXFwb3f2ou9vRyJHPw4yIfMjF63DMnxWFBgdrqDUvWaXGb38cde5t5jo0NAWlnj5DmfF0wdKf1EFxkFgp-IK1smEjivucrfDgJ4Rgzkj_YmS364h9_IdsrDxg_zpkn1QPR7xRi-nutM2QlnDqMK-nzYu8fG1f3SBN1WDlOW2yiyq2yY_SdNOURBp9cJ4YVgpJ1l5--ejywhUp_rQrrdbI8xCxAni3WYyT0JBShWR3zYbKpyZi_fW0&src-supplier=Compliance+Statements; ComponentLink15Description: https://octopart.com:443/opatz8j6/c1?t=_jnRK6WbDFLFWShGurbqc0M3zwWF74ykEZWfYiM0TpOiGHey8KAgwrBX0Ee2IvVR1FTVCtzG-it88Mx-c64x4FVqtlPCU1l6a3uCUSwp5USUAaZcXFwb3f2ou9vRyJHPw4yIfMjF63DMnxWFBgdrqDUvWaXGb38cde5t5jo0NAWlnj5DmfF0wdKf1EFxkFgp-IK1smEjivucrfDgJ4Rgzkj_YmS364h9_IdsrDxg_zpkn1QPR7xRi-nutM2QlnDqMK-nzYu8fG1f3SBN1WDlOW2yiyq2yY_SdNOURBp9cJ4YVgpJ1l5--ejywhUp_rQrrdbI8xCxAni3WYyT0JBShWR3zYbKpyZi_fW0&src-supplier=Compliance+Statements
footprint SOD-323
pins: A, k C